# Altium footprint library PCB - POWER MODULE - GAPTEC 1S4E_S1U.PCBLIB: 1 footprints
Each footprint in its own frame and in the unit in brackets; x right, y up, seen from the top. Pads: shape width x height; smd on the part's side, far side on the other; paste and mask are expansions set on the pad; w line width, h text height; cw(c..) or ccw(c..) is an arc to the next point about the centre after c.
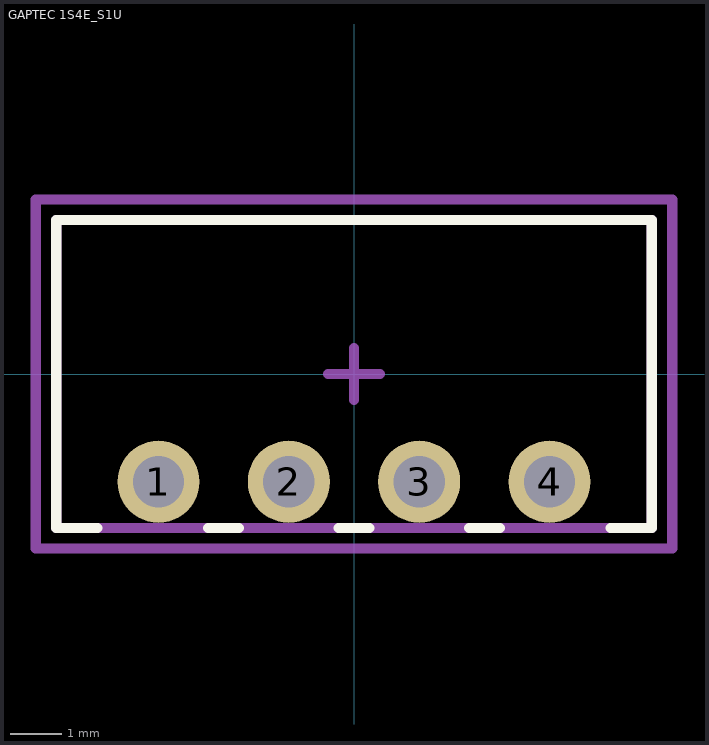
[diagram p0: the footprint, top view; thin cyan lines are the x and y axes]

## GAPTEC 1S4E_S1U [mm] "Isolated Module DC DC Converter 4SIP"
height 10.16
pads (4):
  round 1.6 hole 1: 1(-3.81,-2.1) 2(-1.27,-2.1) 3(1.27,-2.1) 4(3.81,-2.1)
Top Overlay:
  lines w0.2: -5,-3 -5.8,-3 -5.8,3 5.8,3 5.8,-3 5,-3 ; -2.84,-3 -2.24,-3 ; -0.3,-3 0.3,-3 ; 2.24,-3 2.84,-3
Top Assembly:
  lines w0.2: -0.5,0 0.5,0 ; 0,-0.5 0,0.5 ; -5.8,-3 -5.8,3 5.8,3 5.8,-3 -5.8,-3
Top Courtyard (Mech15):
  lines w0.2: -6.2,-3.4 -6.2,3.4 6.2,3.4 6.2,-3.4 -6.2,-3.4
3D body "GAPTEC 1S4E_1U.step": height 10.16, standoff -4.1, extent -5.84,-3 5.84,3